# EAGLE library part X9C104SIZ (library X9C104SIZ)
Digitally Controlled Potentiometer Check availability <https://pricing.snapeda.com/parts/X9C104SIZ/Renesas%20Electronics%20America%20Inc/view-part?ref=eda>
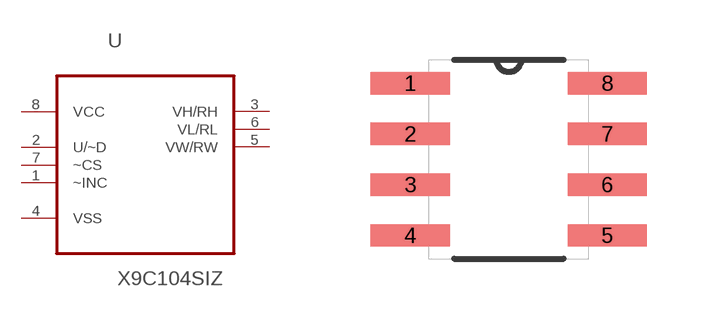
[diagram p0: symbol with the pads of SOIC127P600X175-8N; footprint SOIC127P600X175-8N]

Designator prefix U

## X9C104SIZ (Availability: In Stock; Description: Digital Potentiometer 100k Ohm 1 Circuit 100 Taps Up/Down (U/D, INC, CS) Interface 8-SOIC; MF: Renesas Electronics America Inc; MP: X9C104SIZ; Package: SOIC-8 Renesas; Price: None; Purchase-URL: https://pricing.snapeda.com/search/part/X9C104SIZ/?ref=eda)  [SOIC127P600X175-8N]
1  ~INC  in
2  U/~D  in
3  VH/RH  pas
4  VSS  pwr
5  VW/RW  pas
6  VL/RL  pas
7  ~CS  in
8  VCC  pwr

## Footprint SOIC127P600X175-8N (pad centres in mm)
smd 1.981 x 0.559: 1 -2.464,1.905; 2 -2.464,0.635; 3 -2.464,-0.635; 4 -2.464,-1.905; 5 2.464,-1.905; 6 2.464,-0.635; 7 2.464,0.635; 8 2.464,1.905